# Altium footprint library 主控制.PcbLib: 139 footprints (part 2 of 9)
Each footprint in its own frame and in the unit in brackets; x right, y up, seen from the top. Pads: shape width x height; smd on the part's side, far side on the other; paste and mask are expansions set on the pad; w line width, h text height; cw(c..) or ccw(c..) is an arc to the next point about the centre after c.
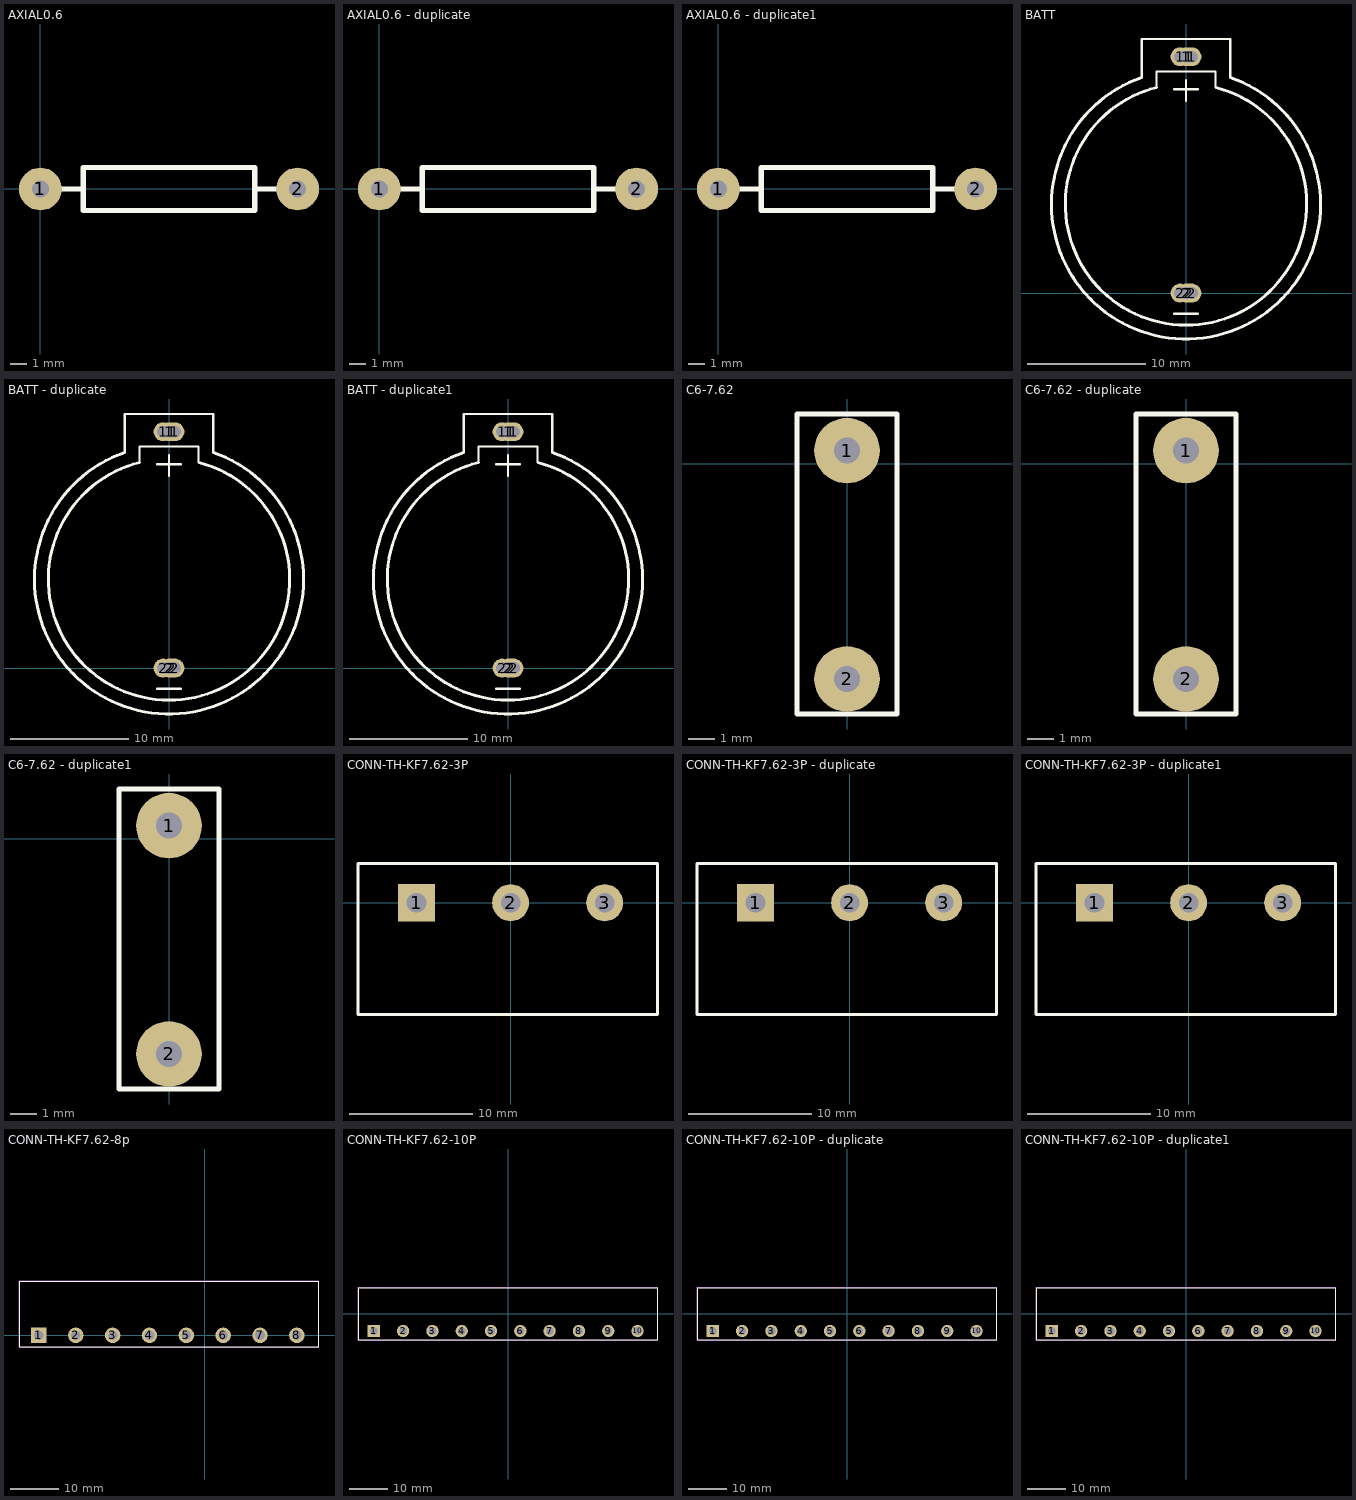
[diagram p1: the footprints below, top view; thin cyan lines are the x and y axes]

## AXIAL0.6 [mil]
pads (2):
  round 100 hole 40: 1(0.24,-0.44) 2(600.24,-0.44)
Top Overlay:
  lines w12: 40.24,-0.44 100.24,-0.44 ; 500.24,-0.44 560.24,-0.44 ; 100.24,-50.44 100.24,49.56 500.24,49.56 500.24,-50.44 100.24,-50.44

## AXIAL0.6 - duplicate [mil]
pads (2):
  round 100 hole 40: 1(0.24,-0.44) 2(600.24,-0.44)
Top Overlay:
  lines w12: 40.24,-0.44 100.24,-0.44 ; 500.24,-0.44 560.24,-0.44 ; 100.24,-50.44 100.24,49.56 500.24,49.56 500.24,-50.44 100.24,-50.44

## AXIAL0.6 - duplicate1 [mil]
pads (2):
  round 100 hole 40: 1(0.24,-0.44) 2(600.24,-0.44)
Top Overlay:
  lines w12: 40.24,-0.44 100.24,-0.44 ; 500.24,-0.44 560.24,-0.44 ; 100.24,-50.44 500.24,-50.44 500.24,49.56 100.24,49.56 100.24,-50.44

## BATT [mm]
pads (9):
  round 1.6 hole 1: 1(-0.5,20) 1(0,20) 1(0.25,20) 1(0.5,20) 2(-0.5,0) 2(0,0) 2(0,0) 2(0.25,0) 2(0.5,0)
Top Overlay:
  lines w0.203: -3.75,18.25 -3.75,20.5 -3.75,21.5 3.75,21.5 3.75,20.5 3.75,18.25 ; -2.5,18.25 -2.5,17.4 -2.5,18.75 2.5,18.75 2.5,17.5 ; -1,-1.75 1,-1.75 ; -1,17.25 1,17.25 ; 0,16.25 0,18
  lines w0.254: -3.75,18.25 ccw(c0,7.5) 3.75,18.25 ; -2.5,17.4 ccw(c0,7.5) 2.536,17.391

## BATT - duplicate [mm]
pads (9):
  round 1.6 hole 1: 1(-0.5,20) 1(0,20) 1(0.25,20) 1(0.5,20) 2(-0.5,0) 2(0,0) 2(0,0) 2(0.25,0) 2(0.5,0)
Top Overlay:
  lines w0.203: -3.75,18.25 -3.75,20.5 -3.75,21.5 3.75,21.5 3.75,20.5 3.75,18.25 ; -2.5,18.25 -2.5,17.4 -2.5,18.75 2.5,18.75 2.5,17.5 ; -1,-1.75 1,-1.75 ; -1,17.25 1,17.25 ; 0,16.25 0,18
  lines w0.254: -3.75,18.25 ccw(c0,7.5) 3.75,18.25 ; -2.5,17.4 ccw(c0,7.5) 2.536,17.391

## BATT - duplicate1 [mm]
pads (9):
  round 1.6 hole 1: 1(-0.5,20) 1(0,20) 1(0.25,20) 1(0.5,20) 2(-0.5,0) 2(0,0) 2(0,0) 2(0.25,0) 2(0.5,0)
Top Overlay:
  lines w0.203: -3.75,18.25 -3.75,20.5 -3.75,21.5 3.75,21.5 3.75,20.5 3.75,18.25 ; -2.5,18.25 -2.5,17.4 -2.5,18.75 2.5,18.75 2.5,17.5 ; -1,-1.75 1,-1.75 ; -1,17.25 1,17.25 ; 0,16.25 0,18
  lines w0.254: -3.75,18.25 ccw(c0,7.5) 3.75,18.25 ; -2.5,17.4 ccw(c0,7.5) 2.536,17.391

## C6-7.62 [mm]
pads (2):
  round 2.5 hole 1: 1(0,0.51) 2(0,-8.19)
Top Overlay:
  lines w0.203: -1.905,-9.525 -1.905,1.905 1.905,1.905 1.905,-9.525 -1.905,-9.525

## C6-7.62 - duplicate [mm]
pads (2):
  round 2.5 hole 1: 1(0,0.51) 2(0,-8.19)
Top Overlay:
  lines w0.203: -1.905,-9.525 -1.905,1.905 1.905,1.905 1.905,-9.525 -1.905,-9.525

## C6-7.62 - duplicate1 [mm]
pads (2):
  round 2.5 hole 1: 1(0,0.51) 2(0,-8.19)
Top Overlay:
  lines w0.203: -1.905,-9.525 -1.905,1.905 1.905,1.905 1.905,-9.525 -1.905,-9.525

## CONN-TH-KF7.62-3P [mm]
pads (3):
  rect 3x3 hole 1.6 paste+0 mask+0.051: 1(-7.62,0)
  round 3 hole 1.6 paste+0 mask+0.051: 2(0,0) 3(7.62,0)
Top Overlay:
  lines w0.254: -12.37,-9.065 -12.37,3.175 11.903,3.175 11.903,-9.065 -12.37,-9.065
Mechanical 15:
  region: 8.32,0 8.32,0.092 8.272,0.27 8.18,0.43 8.05,0.56 7.89,0.652 7.712,0.7 7.528,0.7 7.35,0.652 7.19,0.56 7.06,0.43 6.968,0.27 6.92,0.092 6.92,0 6.92,-0.092 6.968,-0.27 7.06,-0.43 7.19,-0.56 7.35,-0.652 7.528,-0.7 7.712,-0.7 7.89,-0.652 8.05,-0.56 8.18,-0.43 8.272,-0.27 8.32,-0.092
  region: 0.7,0 0.7,0.092 0.652,0.27 0.56,0.43 0.43,0.56 0.27,0.652 0.092,0.7 -0.092,0.7 -0.27,0.652 -0.43,0.56 -0.56,0.43 -0.652,0.27 -0.7,0.092 -0.7,0 -0.7,-0.092 -0.652,-0.27 -0.56,-0.43 -0.43,-0.56 -0.27,-0.652 -0.092,-0.7 0.092,-0.7 0.27,-0.652 0.43,-0.56 0.56,-0.43 0.652,-0.27 0.7,-0.092
  region: -6.92,0 -6.92,0.092 -6.968,0.27 -7.06,0.43 -7.19,0.56 -7.35,0.652 -7.528,0.7 -7.712,0.7 -7.89,0.652 -8.05,0.56 -8.18,0.43 -8.272,0.27 -8.32,0.092 -8.32,0 -8.32,-0.092 -8.272,-0.27 -8.18,-0.43 -8.05,-0.56 -7.89,-0.652 -7.712,-0.7 -7.528,-0.7 -7.35,-0.652 -7.19,-0.56 -7.06,-0.43 -6.968,-0.27 -6.92,-0.092
  lines w0.051: -12.37,-9.065 11.944,-9.065 11.944,3.189 -12.37,3.189 -12.37,-9.065

## CONN-TH-KF7.62-3P - duplicate [mm]
pads (3):
  rect 3x3 hole 1.6 paste+0 mask+0.051: 1(-7.62,0)
  round 3 hole 1.6 paste+0 mask+0.051: 2(0,0) 3(7.62,0)
Top Overlay:
  lines w0.254: -12.37,-9.065 -12.37,3.175 11.903,3.175 11.903,-9.065 -12.37,-9.065
Mechanical 15:
  region: 8.32,0 8.32,0.092 8.272,0.27 8.18,0.43 8.05,0.56 7.89,0.652 7.712,0.7 7.528,0.7 7.35,0.652 7.19,0.56 7.06,0.43 6.968,0.27 6.92,0.092 6.92,0 6.92,-0.092 6.968,-0.27 7.06,-0.43 7.19,-0.56 7.35,-0.652 7.528,-0.7 7.712,-0.7 7.89,-0.652 8.05,-0.56 8.18,-0.43 8.272,-0.27 8.32,-0.092
  region: 0.7,0 0.7,0.092 0.652,0.27 0.56,0.43 0.43,0.56 0.27,0.652 0.092,0.7 -0.092,0.7 -0.27,0.652 -0.43,0.56 -0.56,0.43 -0.652,0.27 -0.7,0.092 -0.7,0 -0.7,-0.092 -0.652,-0.27 -0.56,-0.43 -0.43,-0.56 -0.27,-0.652 -0.092,-0.7 0.092,-0.7 0.27,-0.652 0.43,-0.56 0.56,-0.43 0.652,-0.27 0.7,-0.092
  region: -6.92,0 -6.92,0.092 -6.968,0.27 -7.06,0.43 -7.19,0.56 -7.35,0.652 -7.528,0.7 -7.712,0.7 -7.89,0.652 -8.05,0.56 -8.18,0.43 -8.272,0.27 -8.32,0.092 -8.32,0 -8.32,-0.092 -8.272,-0.27 -8.18,-0.43 -8.05,-0.56 -7.89,-0.652 -7.712,-0.7 -7.528,-0.7 -7.35,-0.652 -7.19,-0.56 -7.06,-0.43 -6.968,-0.27 -6.92,-0.092
  lines w0.051: -12.37,-9.065 11.944,-9.065 11.944,3.189 -12.37,3.189 -12.37,-9.065

## CONN-TH-KF7.62-3P - duplicate1 [mm]
pads (3):
  rect 3x3 hole 1.6 paste+0 mask+0.051: 1(-7.62,0)
  round 3 hole 1.6 paste+0 mask+0.051: 2(0,0) 3(7.62,0)
Top Overlay:
  lines w0.254: -12.37,-9.065 -12.37,3.175 11.903,3.175 11.903,-9.065 -12.37,-9.065
Mechanical 15:
  region: 8.32,0 8.32,0.092 8.272,0.27 8.18,0.43 8.05,0.56 7.89,0.652 7.712,0.7 7.528,0.7 7.35,0.652 7.19,0.56 7.06,0.43 6.968,0.27 6.92,0.092 6.92,0 6.92,-0.092 6.968,-0.27 7.06,-0.43 7.19,-0.56 7.35,-0.652 7.528,-0.7 7.712,-0.7 7.89,-0.652 8.05,-0.56 8.18,-0.43 8.272,-0.27 8.32,-0.092
  region: 0.7,0 0.7,0.092 0.652,0.27 0.56,0.43 0.43,0.56 0.27,0.652 0.092,0.7 -0.092,0.7 -0.27,0.652 -0.43,0.56 -0.56,0.43 -0.652,0.27 -0.7,0.092 -0.7,0 -0.7,-0.092 -0.652,-0.27 -0.56,-0.43 -0.43,-0.56 -0.27,-0.652 -0.092,-0.7 0.092,-0.7 0.27,-0.652 0.43,-0.56 0.56,-0.43 0.652,-0.27 0.7,-0.092
  region: -6.92,0 -6.92,0.092 -6.968,0.27 -7.06,0.43 -7.19,0.56 -7.35,0.652 -7.528,0.7 -7.712,0.7 -7.89,0.652 -8.05,0.56 -8.18,0.43 -8.272,0.27 -8.32,0.092 -8.32,0 -8.32,-0.092 -8.272,-0.27 -8.18,-0.43 -8.05,-0.56 -7.89,-0.652 -7.712,-0.7 -7.528,-0.7 -7.35,-0.652 -7.19,-0.56 -7.06,-0.43 -6.968,-0.27 -6.92,-0.092
  lines w0.051: -12.37,-9.065 11.944,-9.065 11.944,3.189 -12.37,3.189 -12.37,-9.065

## CONN-TH-KF7.62-8p [mm]
pads (8):
  rect 3.21x3.2 hole 2 paste+0 mask+0.051: 1(-34.29,0)
  round 3.2 hole 2 paste+0 mask+0.051: 2(-26.67,0) 3(-19.05,0) 4(-11.43,0) 5(-3.81,0) 6(3.81,0) 7(11.43,0) 8(19.05,0)
Top Overlay:
  lines w0.254: -38.215,-2.305 23.622,-2.305 23.622,11.195 -38.215,11.195 -38.215,-2.305
Mechanical 15:
  drawing of 13 lines, arcs and shapes, not listed

## CONN-TH-KF7.62-10P [mm]
pads (10):
  rect 3.21x3.2 hole 2 paste+0 mask+0.051: 1(-34.925,-4.445)
  round 3.2 hole 2 paste+0 mask+0.051: 2(-27.305,-4.445) 3(-19.685,-4.445) 4(-12.065,-4.445) 5(-4.445,-4.445) 6(3.175,-4.445) 7(10.795,-4.445) 8(18.415,-4.445) 9(26.035,-4.445) 10(33.655,-4.445)
Top Overlay:
  lines w0.254: -38.85,-6.75 -38.85,6.75 38.85,6.75 38.85,-6.75 -38.85,-6.75
Mechanical 15:
  drawing of 15 lines, arcs and shapes, not listed

## CONN-TH-KF7.62-10P - duplicate [mm]
pads (10):
  rect 3.21x3.2 hole 2 paste+0 mask+0.051: 1(-34.925,-4.445)
  round 3.2 hole 2 paste+0 mask+0.051: 2(-27.305,-4.445) 3(-19.685,-4.445) 4(-12.065,-4.445) 5(-4.445,-4.445) 6(3.175,-4.445) 7(10.795,-4.445) 8(18.415,-4.445) 9(26.035,-4.445) 10(33.655,-4.445)
Top Overlay:
  lines w0.254: -38.85,-6.75 -38.85,6.75 38.85,6.75 38.85,-6.75 -38.85,-6.75
Mechanical 15:
  drawing of 15 lines, arcs and shapes, not listed

## CONN-TH-KF7.62-10P - duplicate1 [mm]
pads (10):
  rect 3.21x3.2 hole 2 paste+0 mask+0.051: 1(-34.925,-4.445)
  round 3.2 hole 2 paste+0 mask+0.051: 2(-27.305,-4.445) 3(-19.685,-4.445) 4(-12.065,-4.445) 5(-4.445,-4.445) 6(3.175,-4.445) 7(10.795,-4.445) 8(18.415,-4.445) 9(26.035,-4.445) 10(33.655,-4.445)
Top Overlay:
  lines w0.254: -38.85,-6.75 -38.85,6.75 38.85,6.75 38.85,-6.75 -38.85,-6.75
Mechanical 15:
  drawing of 15 lines, arcs and shapes, not listed